# Altium footprint library 83380698.PcbLib: 1 footprints
Each footprint in its own frame and in the unit in brackets; x right, y up, seen from the top. Pads: shape width x height; smd on the part's side, far side on the other; paste and mask are expansions set on the pad; w line width, h text height; cw(c..) or ccw(c..) is an arc to the next point about the centre after c.
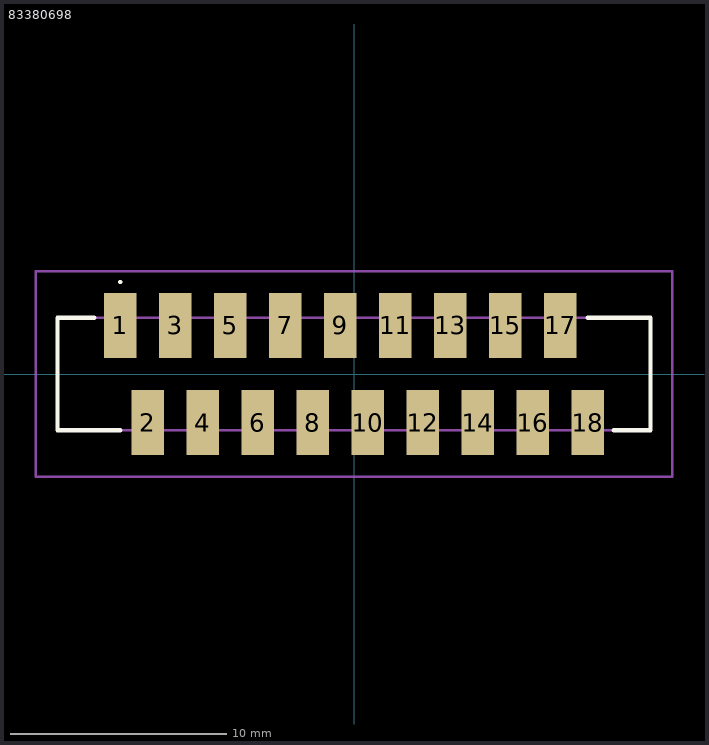
[diagram p0: the footprint, top view; thin cyan lines are the x and y axes]

## 83380698 [mm]
pads (18):
  rect 1.5x3 smd: 1(-10.795,2.25) 2(-9.525,-2.25) 3(-8.255,2.25) 4(-6.985,-2.25) 5(-5.715,2.25) 6(-4.445,-2.25) 7(-3.175,2.25) 8(-1.905,-2.25) 9(-0.635,2.25) 10(0.635,-2.25) 11(1.905,2.25) 12(3.175,-2.25) 13(4.445,2.25) 14(5.715,-2.25) 15(6.985,2.25) 16(8.255,-2.25) 17(9.525,2.25) 18(10.795,-2.25)
Top Overlay:
  lines w0.1: -10.8,4.3 -10.8,4.3 ; -10.8,4.301 cw(c-10.797,4.25) -10.795,4.199 cw(c-10.797,4.25) -10.8,4.301 ; -10.795,4.2 -10.795,4.2
  lines w0.2: -12,2.6 -13.7,2.6 -13.7,-2.6 -10.8,-2.6 ; 10.795,2.6 13.7,2.6 13.7,-2.6 12,-2.6
Mechanical 15:
  lines w0.1: -13.7,-2.6 13.7,-2.6 13.7,2.6 -13.7,2.6 -13.7,-2.6
Mechanical 20:
  lines w0.1: -14.7,-4.75 14.7,-4.75 14.7,4.75 -14.7,4.75 -14.7,-4.75